# EAGLE library part MCP2021-330ESN (library MCP2021_MCP2562)
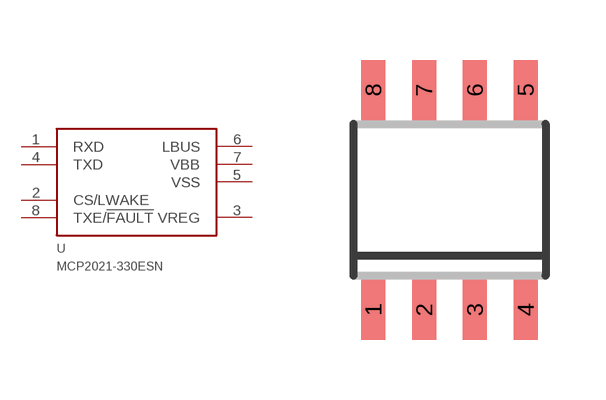
[diagram p1: symbol with the pads of SOIC8; footprint SOIC8]

Designator prefix U

## MCP2021-330ESN  [SOIC8]
1  RXD
2  CS/LWAKE
3  VREG
4  TXD
5  VSS
6  LBUS
7  VBB
8  TXE/!FAULT

## Footprint SOIC8 (pad centres in mm)
SOIC-8 CASE 751-07 Source: http://www.onsemi.com/pub/Collateral/MC34164-D.PDF D (R-PDSO-G8)PLATIC SMALL-OUTLINE PACKAGE Source: http://focus.ti.com/lit/ds/symlink/tlc27l2.pdf
smd 0.6 x 1.5: 1 -1.905,-2.75; 2 -0.635,-2.75; 3 0.635,-2.75; 4 1.905,-2.75; 5 1.905,2.75; 6 0.635,2.75; 7 -0.635,2.75; 8 -1.905,2.75